# Altium schematic symbol library LOGTURTLE_APR_25_TX.SCHLIB: 138 symbols (part 1 of 2)
Pins are listed as number, name and electrical type; pins without a type are passive.

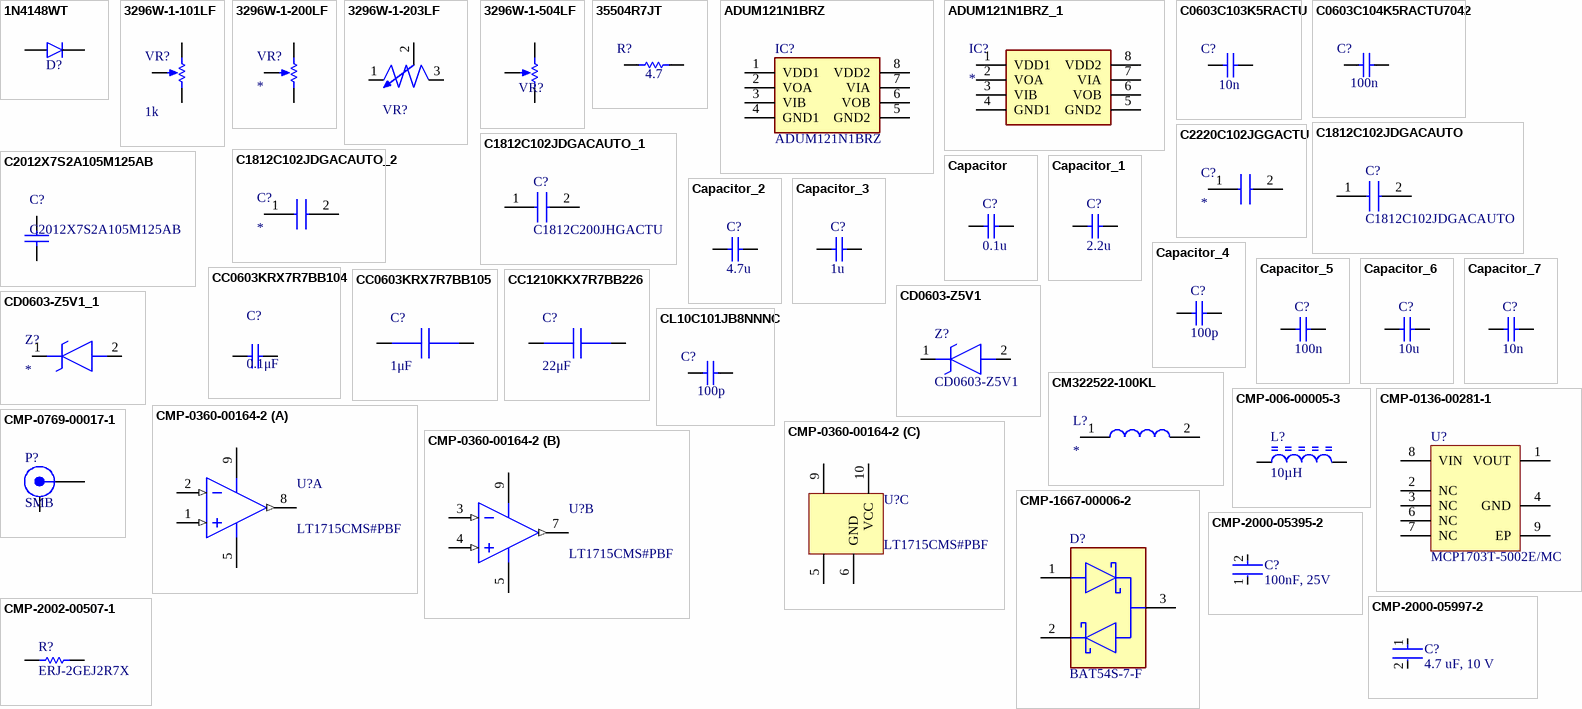
[diagram p0: symbols 1N4148WT to CMP-2002-00507-1]

## 1N4148WT
designator D?  (value not drawn)
Rectifier Diode, 1 Phase, 1 Element, 0.3A, 75V V(RRM), Silicon https://www.digikey.ie/en/products/detail/onsemi/1N4148WT/1954014; Manufacturer: ON Semiconductor / Fairchild; Supplier: Rs; Supplier Part Number: 7614283P; Manufacturer Part Number: 1N4148WT; RoHS: Yes; Category: Rectifier Diodes; Stock: 67900; Pricing: 500=0.029, 1000=0.025, 2500=0.022 (EUR); Diode Type: RECTIFIER; RoHS Compliant: Yes; ComponentLink1URL: https://datasheet.ciiva.com/16744/1n4148wt-16744972.pdf?src-supplier=Future+Electronics; ComponentLink1Description: https://datasheet.ciiva.com/16744/1n4148wt-16744972.pdf?src-supplier=Future+Electronics; ComponentLink2URL: https://datasheet.ciiva.com/30479/0900766b810e1cd4-30479226.pdf?src-supplier=Rs; ComponentLink2Description: https://datasheet.ciiva.com/30479/0900766b810e1cd4-30479226.pdf?src-supplier=Rs; ComponentLink3URL: https://datasheet.ciiva.com/15208/getdatasheetpartid-146392-15208359.pdf?src-supplier=Verical; ComponentLink3Description: https://datasheet.ciiva.com/15208/getdatasheetpartid-146392-15208359.pdf?src-supplier=Verical; ComponentLink4URL: https://datasheet.ciiva.com/916/1n914bwt-916865.pdf?src-supplier=Digikey; ComponentLink4Description: https://datasheet.ciiva.com/916/1n914bwt-916865.pdf?src-supplier=Digikey; ComponentLink5URL: https://datasheet.ciiva.com/916/1n914bwt-916866.pdf?src-supplier=Digikey; ComponentLink5Description: https://datasheet.ciiva.com/916/1n914bwt-916866.pdf?src-supplier=Digikey; ComponentLink6URL: https://datasheet.ciiva.com/916/1n914bwt-916864.pdf?src-supplier=Digikey; ComponentLink6Description: https://datasheet.ciiva.com/916/1n914bwt-916864.pdf?src-supplier=Digikey
footprint SODFL160X70-2N (SODFL, 2-Leads, Body 0.80x1.60mm, IPC Medium Density)
pins: 1 Anode, 2 Cathode

## 3296W-1-101LF
designator VR?  value 1k  (hidden comment: *)
Variable Resistor, 1 kOhms 0.5W, 1/2W PC Pins Through Hole Trimmer Potentiometer Cermet 25.0 Turn Top Adjustment; Manufacturer_Name: Bourns; Datasheet Link: https://componentsearchengine.com/Datasheets/2/3296W-1-200LF.pdf; Height: 10.28mm; Mouser Price/Stock: https://www.mouser.co.uk/ProductDetail/Bourns/3296W-1-200LF?qs=R4%2FAj8xQbdUOcUUWJIVY1Q%3D%3D; Arrow Price/Stock: https://www.arrow.com/en/products/3296w-1-200lf/bourns?utm_currency=USD&region=nac
footprint 3296W1200LF
pins: 1 TOP, 2 BOT, 3 TAP

## 3296W-1-200LF
designator VR?
Variable Resistor, 20 Ohms 0.5W, 1/2W PC Pins Through Hole Trimmer Potentiometer Cermet 25.0 Turn Top Adjustment; Manufacturer_Name: Bourns; Manufacturer_Part_Number: 3296W-1-200LF; Datasheet Link: https://componentsearchengine.com/Datasheets/2/3296W-1-200LF.pdf; Height: 10.28mm; Mouser Part Number: 652-3296W-1-200LF; Mouser Price/Stock: https://www.mouser.co.uk/ProductDetail/Bourns/3296W-1-200LF?qs=R4%2FAj8xQbdUOcUUWJIVY1Q%3D%3D; Arrow Part Number: 3296W-1-200LF; Arrow Price/Stock: https://www.arrow.com/en/products/3296w-1-200lf/bourns?utm_currency=USD&region=nac
footprint 3296W1200LF
pins: 1 TOP, 2 BOT, 3 TAP

## 3296W-1-203LF
designator VR?  (value not drawn)
Trimmer, Cermet, 0.5W, 20000ohm, 300V, 10% +/-Tol, 100ppm/Cel, 25 Turn(s) https://www.bourns.com/docs/product-datasheets/3296.pdf; Manufacturer: Bourns; Actuator Orientation: Vertical; Actuator Type: SCREW; Number of Turns: 25; Power: 500mW; Rated Temperature: 70°C; Value: 20kR; Resistance Law: Linear; Rotational Angle: 9000°; Temperature Coefficient: -100100ppm/°C; Lead Diameter: 0.51mm; Lead Length: 6.4mm; Package Height: 10.03mm; Package Length: 9.53mm; Package Width: 4.83mm; Supplier: Digikey; Supplier Part Number: 3296W-203LF-ND; Manufacturer Part Number: 3296W-1-203LF; RoHS: Yes; Category: Variable Resistors and Potentiometers; Stock: 2018; Mounting Technology: Through Hole; Pins: 3; Package Shape: Rectangular; Case/Package: 3819; Terminal Finish: Tin; Min Operating Temperature: -55°C; Max Operating Temperature: 125°C; Tolerance: 10%; JESD-609 Code: e3; Resistor Type: TRIMMER; Construction: Trimmer Pot; Package Style: PCB MountMeter; Packaging: Rail/Tube; Technology: CERMET; Termination: Wire; RoHS Compliant: Yes; Reach SVHC Compliant: No; ComponentLink1URL: https://datasheet.ciiva.com:443/pdfs/VipMasterIC/IC/BOUR/BOUR-S-A0008796795/BOUR-S-A0008796795-1.pdf?src-supplier=IHS+Markit; ComponentLink1Description: https://datasheet.ciiva.com:443/pdfs/VipMasterIC/IC/BOUR/BOUR-S-A0008796795/BOUR-S-A0008796795-1.pdf?src-supplier=IHS+Markit; ComponentLink2URL: https://datasheet.ciiva.com/14173/ew3296-dat-e-14173023.pdf?src-supplier=Distrelec; ComponentLink2Description: https://datasheet.ciiva.com/14173/ew3296-dat-e-14173023.pdf?src-supplier=Distrelec; ComponentLink3URL: https://datasheet.ciiva.com/15156/getdatasheetpartid-62506-15156343.pdf?src-supplier=Verical; ComponentLink3Description: https://datasheet.ciiva.com/15156/getdatasheetpartid-62506-15156343.pdf?src-supplier=Verical
footprint 3296W
pins: 1 CW, 2, 3 CCW

## 3296W-1-504LF
designator VR?, comment 3296W-1-203LF  (value not drawn)
Trimmer, Cermet, 0.5W, 500 kohm, 300V, 10% +/-Tol, 100ppm/Cel, 25 Turn(s) https://www.bourns.com/docs/product-datasheets/3296.pdf; Manufacturer: Bourns; Actuator Orientation: Vertical; Actuator Type: SCREW; Number of Turns: 25; Power: 500mW; Rated Temperature: 70°C; Value: 500kR; Resistance Law: Linear; Rotational Angle: 9000°; Temperature Coefficient: -100100ppm/°C; Lead Diameter: 0.51mm; Lead Length: 6.4mm; Package Height: 10.03mm; Package Length: 9.53mm; Package Width: 4.83mm; Supplier: Digikey; Supplier Part Number: 3296W-203LF-ND; Manufacturer Part Number: 3296W-1-203LF; RoHS: Yes; Category: Variable Resistors and Potentiometers; Stock: 2018; Mounting Technology: Through Hole; Pins: 3; Package Shape: Rectangular; Case/Package: 3819; Terminal Finish: Tin; Min Operating Temperature: -55°C; Max Operating Temperature: 125°C; Tolerance: 10%; JESD-609 Code: e3; Resistor Type: TRIMMER; Construction: Trimmer Pot; Package Style: PCB MountMeter; Packaging: Rail/Tube; Technology: CERMET; Termination: Wire; RoHS Compliant: Yes; Reach SVHC Compliant: No; ComponentLink1URL: https://datasheet.ciiva.com:443/pdfs/VipMasterIC/IC/BOUR/BOUR-S-A0008796795/BOUR-S-A0008796795-1.pdf?src-supplier=IHS+Markit; ComponentLink1Description: https://datasheet.ciiva.com:443/pdfs/VipMasterIC/IC/BOUR/BOUR-S-A0008796795/BOUR-S-A0008796795-1.pdf?src-supplier=IHS+Markit; ComponentLink2URL: https://datasheet.ciiva.com/14173/ew3296-dat-e-14173023.pdf?src-supplier=Distrelec; ComponentLink2Description: https://datasheet.ciiva.com/14173/ew3296-dat-e-14173023.pdf?src-supplier=Distrelec; ComponentLink3URL: https://datasheet.ciiva.com/15156/getdatasheetpartid-62506-15156343.pdf?src-supplier=Verical; ComponentLink3Description: https://datasheet.ciiva.com/15156/getdatasheetpartid-62506-15156343.pdf?src-supplier=Verical
footprint 3296W
pins: 1 TOP, 2 BOT, 3 TAP

## 35504R7JT
designator R?  value 4.7  (hidden comment: 35504R7JT)
Resistor, 4.7 Ohms ±5% 5W Chip Resistor Nonstandard Thick Film; Manufacturer_Name: TE Connectivity; Copyright: Copyright (C) 2025 Ultra Librarian. All rights reserved.; Manufacturer_Part_Number: 35504R7JT
footprint RES_3550_TEC
pins: 1, 2

## ADUM121N1BRZ
designator IC?
Integrated Circuit; Manufacturer_Name: Analog Devices; Datasheet Link: http://www.analog.com/media/en/technical-documentation/data-sheets/ADuM120N_121N.pdf; Height: 1.75mm; Manufacturer_Part_Number: ADUM121N1BRZ; Mouser Part Number: 584-ADUM121N1BRZ; Mouser Price/Stock: https://www.mouser.co.uk/ProductDetail/Analog-Devices/ADUM121N1BRZ?qs=lrf6x%2Foh5fBVNc%2Fo3CLfcQ%3D%3D; Arrow Part Number: ADUM121N1BRZ; Arrow Price/Stock: https://www.arrow.com/en/products/adum121n1brz/analog-devices?utm_currency=USD&region=nac
footprint SOIC127P600X175-8N
pins: 1 VDD1, 2 VOA, 3 VIB, 4 GND1, 5 GND2, 6 VOB, 7 VIA, 8 VDD2

## ADUM121N1BRZ_1
designator IC?
Integrated Circuit; Manufacturer_Name: Analog Devices; Manufacturer_Part_Number: ADUM121N1BRZ; Datasheet Link: http://www.analog.com/media/en/technical-documentation/data-sheets/ADuM120N_121N.pdf; Height: 1.75mm; Mouser Part Number: 584-ADUM121N1BRZ; Mouser Price/Stock: https://www.mouser.co.uk/ProductDetail/Analog-Devices/ADUM121N1BRZ?qs=lrf6x%2Foh5fBVNc%2Fo3CLfcQ%3D%3D; Arrow Part Number: ADUM121N1BRZ; Arrow Price/Stock: https://www.arrow.com/en/products/adum121n1brz/analog-devices?utm_currency=USD&region=nac
footprint SOIC127P600X175-8N
pins: 1 VDD1, 2 VOA, 3 VIB, 4 GND1, 5 GND2, 6 VOB, 7 VIA, 8 VDD2

## C0603C103K5RACTU
designator C?  value 10n  (hidden comment: *)
Capacitor, 10000 pF ±10% 50V Ceramic Capacitor X7R 0603 (1608 Metric); Manufacturer_Name: YAGEO; Manufacturer_Part_Number: C0603C103K5RACTU; Datasheet Link: https://content.kemet.com/datasheets/KEM_C1002_X7R_SMD.pdf; Height: 0.87mm; Mouser Part Number: 80-C0603C103K5R; Mouser Price/Stock: https://www.mouser.co.uk/ProductDetail/KEMET/C0603C103K5RACTU?qs=aZBT8IJKz4hu1X55tMAU6Q%3D%3D; Arrow Part Number: C0603C103K5RACTU; Arrow Price/Stock: https://www.arrow.com/en/products/c0603c103k5ractu/kemet-corporation?utm_currency=USD&region=nac
footprint C0603
pins: 1, 2

## C0603C104K5RACTU7042
designator C?  value 100n  (hidden comment: *)
Capacitor, 0.1 µF ±10% 50V Ceramic Capacitor X7R 0603 (1608 Metric); Manufacturer_Name: YAGEO; Manufacturer_Part_Number: C0603C104K5RACTU7042; Datasheet Link: https://www.arrow.com/en/products/c0603c104k5ractu7042/kemet-corporation; Height: 0.95mm; Arrow Part Number: C0603C104K5RACTU7042; Arrow Price/Stock: https://www.arrow.com/en/products/c0603c104k5ractu7042/kemet-corporation
footprint CAPC1608X95N
pins: 1, 2

## C1812C102JDGACAUTO
designator C?
Capacitor; Manufacturer_Name: YAGEO; Datasheet Link: https://content.kemet.com/datasheets/KEM_C1080_C0G_HV_AUTO_SMD.pdf; Height: 1.55mm; Manufacturer_Part_Number: C1812C102JDGACAUTO
footprint C1812
pins: 1, 2

## C1812C102JDGACAUTO_1
designator C?, comment C1812C200JHGACTU
Capacitor; Manufacturer_Name: YAGEO; Manufacturer_Part_Number: C1812C102JDGACAUTO; Datasheet Link: https://content.kemet.com/datasheets/KEM_C1080_C0G_HV_AUTO_SMD.pdf; Height: 1.55mm
footprint C1812
pins: 1, 2

## C1812C102JDGACAUTO_2
designator C?
Capacitor; Manufacturer_Name: YAGEO; Manufacturer_Part_Number: C1812C102JDGACAUTO; Datasheet Link: https://content.kemet.com/datasheets/KEM_C1080_C0G_HV_AUTO_SMD.pdf; Height: 1.55mm
footprint C1812
pins: 1, 2

## C2012X7S2A105M125AB
designator C?
Multilayer Ceramic Capacitors 1μF ±20% 100V X7S SMD 0805; Manufacturer_Name: TDK; Capacitance: 1uF; Datasheet Link: https://product.tdk.com/info/en/catalog/datasheets/mlcc_commercial_midvoltage_en.pdf; Height: 1.45mm; Manufacturer_Part_Number: C2012X7S2A105M125AB; Mouser Part Number: 810-C2012X7S2A105M; Mouser Price/Stock: https://www.mouser.co.uk/ProductDetail/TDK/C2012X7S2A105M125AB/?qs=NRhsANhppD%252BVdUt3hZqBMQ%3D%3D
footprint CAPC2012X145N
pins: 1, 2

## C2220C102JGGACTU
designator C?
Capacitor; Manufacturer_Name: KEMET; Manufacturer_Part_Number: C2220C102JGGACTU; Datasheet Link: https://content.kemet.com/datasheets/KEM_C1009_C0G_HV_SMD.pdf; Height: 2.2mm; Mouser Part Number: 80-C2220C102JGG; Mouser Price/Stock: https://www.mouser.co.uk/ProductDetail/KEMET/C2220C102JGGACTU?qs=w3%252Bcv6Flocq2o2tO%2FfUhTA%3D%3D; Arrow Part Number: C2220C102JGGACTU; Arrow Price/Stock: https://www.arrow.com/en/products/c2220c102jggactu/kemet-corporation?region=nac
footprint C2220
pins: 1, 2

## Capacitor
designator C?  value 0.1u  (hidden comment: Capacitor)
SimulationGenericComponent: True
simulation model C_Capacitor_Default (CAP)
footprint CAPC1608X09N (Chip Capacitor, 2-Leads, Body 1.60x0.80mm, IPC Medium Density)
pins: 1, 2

## Capacitor_1
designator C?, comment value 2.2u  (hidden comment: Capacitor)
SimulationGenericComponent: True
simulation model C_Capacitor_Default (CAP)
footprint CAPC1608X09N (Chip Capacitor, 2-Leads, Body 1.60x0.80mm, IPC Medium Density)
pins: 1, 2

## Capacitor_2
designator C?, comment value 4.7u  (hidden comment: Capacitor)
SimulationGenericComponent: True
simulation model C_Capacitor_Default (CAP)
pins: 1, 2

## Capacitor_3
designator C?, comment value 1u  (hidden comment: Capacitor)
SimulationGenericComponent: True
simulation model C_Capacitor_Default (CAP)
footprint CAPC1608X09N (Chip Capacitor, 2-Leads, Body 1.60x0.80mm, IPC Medium Density)
pins: 1, 2

## Capacitor_4
designator C?, comment value 100p  (hidden comment: Capacitor)
SimulationGenericComponent: True
simulation model C_Capacitor_Default (CAP)
pins: 1, 2

## Capacitor_5
designator C?, comment value 100n  (hidden comment: Capacitor)
SimulationGenericComponent: True
simulation model C_Capacitor_Default (CAP)
pins: 1, 2

## Capacitor_6
designator C?, comment value 10u  (hidden comment: Capacitor)
SimulationGenericComponent: True
simulation model C_Capacitor_Default (CAP)
pins: 1, 2

## Capacitor_7
designator C?, comment value 10n  (hidden comment: Capacitor)
SimulationGenericComponent: True
simulation model C_Capacitor_Default (CAP)
footprint CAPC1608X09N (Chip Capacitor, 2-Leads, Body 1.60x0.80mm, IPC Medium Density)
pins: 1, 2

## CC0603KRX7R7BB104
designator C?, comment 0.1μF
Ceramic Capacitor, Multilayer, Ceramic, 16V, 10% +Tol, 10% -Tol, X7R, 15% TC, 0.1uF, Surface Mount, 0603 https://www.digikey.ie/en/products/detail/yageo/CC0603KRX7R7BB104/302822; Manufacturer: Yageo; Value: 100nF; Multilayer: Yes; Supplier: Digikey; Supplier Part Number: 311-1088-1-ND; Manufacturer Part Number: CC0603KRX7R7BB104; RoHS: Yes; Category: Ceramic Capacitors; Stock: 8597331; Mounting Technology: Surface Mount; Pins: 2; Dielectric Material: Ceramic; Package Shape: Rectangular; Case/Package: 0603; Terminal Finish: Nickel; Min Operating Temperature: -55°C; Max Operating Temperature: 125°C; JESD-609 Code: e3; Capacitor Type: Ceramic; Tolerance  (fill in as +-): 10%; Package Style: SMTMeter; Packaging: Tape and Reel; Tolerance (fill in as +-): 10%; Rated DC Voltage (URdc): 16V; Temperature Characteristics Code: X7R; Termination: Wraparound; Length: 1.6mm; Width: 0.8mm; Height: 0.8mm; Reach SVHC Compliant: Yes; RoHS Compliant: Yes; ComponentLink1URL: https://datasheet.ciiva.com:443/pdfs/VipMasterIC/IC/YAGO/YAGO-S-A0003557223/YAGO-S-A0003557223-1.pdf?src-supplier=IHS+Markit; ComponentLink1Description: https://datasheet.ciiva.com:443/pdfs/VipMasterIC/IC/YAGO/YAGO-S-A0003557223/YAGO-S-A0003557223-1.pdf?src-supplier=IHS+Markit; ComponentLink2URL: https://datasheet.ciiva.com/11786/0900766b80d84f1d-11786077.pdf?src-supplier=Rs; ComponentLink2Description: https://datasheet.ciiva.com/11786/0900766b80d84f1d-11786077.pdf?src-supplier=Rs; ComponentLink3URL: https://datasheet.ciiva.com/8033/70765-8033799.pdf?src-supplier=Element14; ComponentLink3Description: https://datasheet.ciiva.com/8033/70765-8033799.pdf?src-supplier=Element14; ComponentLink4URL: https://datasheet.ciiva.com/7978/1489800-7978141.pdf?src-supplier=Element14; ComponentLink4Description: https://datasheet.ciiva.com/7978/1489800-7978141.pdf?src-supplier=Element14; ComponentLink5URL: https://datasheet.ciiva.com/28450/1489800-28450552.pdf?src-supplier=Element14; ComponentLink5Description: https://datasheet.ciiva.com/28450/1489800-28450552.pdf?src-supplier=Element14; ComponentLink6URL: https://datasheet.ciiva.com/46430/1734573-46430156.pdf?src-supplier=Element14; ComponentLink6Description: https://datasheet.ciiva.com/46430/1734573-46430156.pdf?src-supplier=Element14; ComponentLink7URL: https://datasheet.ciiva.com/144/mlccorderingcode-144183.pdf?src-supplier=Digikey; ComponentLink7Description: https://datasheet.ciiva.com/144/mlccorderingcode-144183.pdf?src-supplier=Digikey; ComponentLink8URL: https://datasheet.ciiva.com/144/mlccorderingcode-144182.pdf?src-supplier=Digikey; ComponentLink8Description: https://datasheet.ciiva.com/144/mlccorderingcode-144182.pdf?src-supplier=Digikey; ComponentLink9URL: https://datasheet.ciiva.com/144/mlccorderingcode-144184.pdf?src-supplier=Digikey; ComponentLink9Description: https://datasheet.ciiva.com/144/mlccorderingcode-144184.pdf?src-supplier=Digikey; ComponentLink10URL: https://datasheet.ciiva.com/8033/1734573-8033797.pdf?src-supplier=Element14; ComponentLink10Description: https://datasheet.ciiva.com/8033/1734573-8033797.pdf?src-supplier=Element14; ComponentLink11URL: https://datasheet.ciiva.com/13395/upy-gphc-x7r-6-3v-to-50v-8-13395674.pdf?src-supplier=Mouser; ComponentLink11Description: https://datasheet.ciiva.com/13395/upy-gphc-x7r-6-3v-to-50v-8-13395674.pdf?src-supplier=Mouser
footprint CAPC1608X90N
pins: 1, 2

## CC0603KRX7R7BB105
designator C?, comment 1μF
Ceramic Capacitor, Multilayer, Ceramic, 16V, 10% +Tol, 10% -Tol, X7R, 15% TC, 1uF, Surface Mount, 0603 https://www.digikey.ie/en/products/detail/yageo/CC0603KRX7R7BB105/2833611; Manufacturer: Yageo; Multilayer: Yes; Supplier: Digikey; Supplier Part Number: 311-1446-6-ND; Manufacturer Part Number: CC0603KRX7R7BB105; RoHS: Yes; Category: Ceramic Capacitors; Stock: 9128438; Mounting Technology: Surface Mount; Pins: 2; Dielectric Material: Ceramic; Package Shape: Rectangular; Case/Package: 0603; Terminal Finish: Nickel; Min Operating Temperature: -55°C; Max Operating Temperature: 125°C; JESD-609 Code: e3; Value: 1uF; Capacitor Type: Ceramic; Tolerance  (fill in as +-): 10%; Package Style: SMTMeter; Packaging: Tape and Reel; Tolerance (fill in as +-): 10%; Rated DC Voltage (URdc): 16V; Temperature Characteristics Code: X7R; Termination: Wraparound; Length: 1.6mm; Width: 0.8mm; Height: 0.8mm; Reach SVHC Compliant: Yes; RoHS Compliant: Yes; ComponentLink1URL: https://datasheet.ciiva.com:443/pdfs/VipMasterIC/IC/YAGO/YAGO-S-A0003557223/YAGO-S-A0003557223-1.pdf?src-supplier=IHS+Markit; ComponentLink1Description: https://datasheet.ciiva.com:443/pdfs/VipMasterIC/IC/YAGO/YAGO-S-A0003557223/YAGO-S-A0003557223-1.pdf?src-supplier=IHS+Markit; ComponentLink2URL: https://datasheet.ciiva.com/8033/1734573-8033801.pdf?src-supplier=Element14; ComponentLink2Description: https://datasheet.ciiva.com/8033/1734573-8033801.pdf?src-supplier=Element14; ComponentLink3URL: https://datasheet.ciiva.com/8033/1734573-8033800.pdf?src-supplier=Element14; ComponentLink3Description: https://datasheet.ciiva.com/8033/1734573-8033800.pdf?src-supplier=Element14; ComponentLink4URL: https://datasheet.ciiva.com/7978/1489800-7978143.pdf?src-supplier=Element14; ComponentLink4Description: https://datasheet.ciiva.com/7978/1489800-7978143.pdf?src-supplier=Element14; ComponentLink5URL: https://datasheet.ciiva.com/28450/1489800-28450557.pdf?src-supplier=Element14; ComponentLink5Description: https://datasheet.ciiva.com/28450/1489800-28450557.pdf?src-supplier=Element14; ComponentLink6URL: https://datasheet.ciiva.com/176/mlccorderingcode-176789.pdf?src-supplier=Digikey; ComponentLink6Description: https://datasheet.ciiva.com/176/mlccorderingcode-176789.pdf?src-supplier=Digikey; ComponentLink7URL: https://datasheet.ciiva.com/176/mlccorderingcode-176788.pdf?src-supplier=Digikey; ComponentLink7Description: https://datasheet.ciiva.com/176/mlccorderingcode-176788.pdf?src-supplier=Digikey; ComponentLink8URL: https://datasheet.ciiva.com/176/mlccorderingcode-176790.pdf?src-supplier=Digikey; ComponentLink8Description: https://datasheet.ciiva.com/176/mlccorderingcode-176790.pdf?src-supplier=Digikey; ComponentLink9URL: https://datasheet.ciiva.com/5425/upy-gphc-x7r-6-3v-to-50v-8-12304-5425495.pdf?src-supplier=Mouser; ComponentLink9Description: https://datasheet.ciiva.com/5425/upy-gphc-x7r-6-3v-to-50v-8-12304-5425495.pdf?src-supplier=Mouser
footprint CAPC1608X09N (Chip Capacitor, 2-Leads, Body 1.60x0.80mm, IPC Medium Density)
pins: 1, 2

## CC1210KKX7R7BB226
designator C?, comment 22μF
Ceramic Capacitor, Multilayer, Ceramic, 16V, 10% +Tol, 10% -Tol, X7R, 15% TC, 22uF, Surface Mount, 1210 https://www.digikey.ie/en/products/detail/yageo/CC1210KKX7R7BB226/5195434; Manufacturer: Yageo; Multilayer: Yes; Supplier: Rs; Supplier Part Number: 1992345; Manufacturer Part Number: CC1210KKX7R7BB226; RoHS: Yes; Category: Ceramic Capacitors; Stock: 1770; Pricing: 10=0.332, 100=0.248, 500=0.216, 1000=0.198 (EUR); Mounting Technology: Surface Mount; Pins: 2; Dielectric Material: Ceramic; Package Shape: Rectangular; Case/Package: 1210; Terminal Finish: Nickel; Min Operating Temperature: -55°C; Max Operating Temperature: 125°C; JESD-609 Code: e3; Value: 22uF; Capacitor Type: Ceramic; Tolerance  (fill in as +-): 10%; Package Style: SMTMeter; Packaging: Tape and Reel; Tolerance (fill in as +-): 10%; Rated DC Voltage (URdc): 16V; Temperature Characteristics Code: X7R; Termination: Wraparound; Length: 3.2mm; Width: 2.5mm; Height: 2.5mm; Reach SVHC Compliant: Yes; RoHS Compliant: Yes; ComponentLink1URL: https://datasheet.ciiva.com:443/pdfs/VipMasterIC/IC/YAGO/YAGO-S-A0003557223/YAGO-S-A0003557223-1.pdf?src-supplier=IHS+Markit; ComponentLink1Description: https://datasheet.ciiva.com:443/pdfs/VipMasterIC/IC/YAGO/YAGO-S-A0003557223/YAGO-S-A0003557223-1.pdf?src-supplier=IHS+Markit; ComponentLink2URL: https://datasheet.ciiva.com/11465/upy-gphc-x7r-6-3v-to-50v-8-11465512.pdf?src-supplier=Avnet; ComponentLink2Description: https://datasheet.ciiva.com/11465/upy-gphc-x7r-6-3v-to-50v-8-11465512.pdf?src-supplier=Avnet
footprint CAPC3225X27N (Chip Capacitor, 2-Leads, Body 3.20x2.50mm, IPC Medium Density)
pins: 1, 2

## CD0603-Z5V1
designator Z?
Zener Diode; Manufacturer_Name: Bourns; Datasheet Link: https://media.digikey.com/pdf/Data%20Sheets/Bourns%20PDFs/D0603_1005-Z.pdf; Height: 0.85mm; Manufacturer_Part_Number: CD0603-Z5V1; Mouser Part Number: 652-CD0603-Z5V1; Mouser Price/Stock: https://www.mouser.com/Search/Refine.aspx?Keyword=652-CD0603-Z5V1
footprint DIOC1709X85N
pins: 1 K, 2 A

## CD0603-Z5V1_1
designator Z?
Zener Diode; Manufacturer_Name: Bourns; Manufacturer_Part_Number: CD0603-Z5V1; Datasheet Link: https://media.digikey.com/pdf/Data%20Sheets/Bourns%20PDFs/D0603_1005-Z.pdf; Height: 0.85mm; Mouser Part Number: 652-CD0603-Z5V1; Mouser Price/Stock: https://www.mouser.com/Search/Refine.aspx?Keyword=652-CD0603-Z5V1
footprint DIOC1709X85N
pins: 1 K, 2 A

## CL10C101JB8NNNC
designator C?  value 100p  (hidden comment: *)
Capacitor, 100 pF ±5% 50V Ceramic Capacitor C0G, NP0 0603 (1608 Metric); Manufacturer_Name: SAMSUNG; Manufacturer_Part_Number: CL10C101JB8NNNC; Datasheet Link: https://lcsc.componentsearchengine.com/Datasheets/2/CL10C101JB8NNNC.pdf; Height: 0.9mm; Mouser Part Number: 187-CL10C101JB8NNNC; Mouser Price/Stock: https://www.mouser.co.uk/ProductDetail/Samsung-Electro-Mechanics/CL10C101JB8NNNC?qs=349EhDEZ59pXXooLigsK%2FQ%3D%3D; Arrow Part Number: CL10C101JB8NNNC; Arrow Price/Stock: https://www.arrow.com/en/products/cl10c101jb8nnnc/samsung-electro-mechanics?region=europe
footprint CAPC1608X90N
pins: 1, 2

## CM322522-100KL
designator L?
Inductor; Manufacturer_Name: Bourns; Manufacturer_Part_Number: CM322522-100KL; Datasheet Link: https://www.bourns.com/pdfs/cm322522.pdf; Height: 2.4mm; Mouser Part Number: 652-CM322522-100KL; Mouser Price/Stock: https://www.mouser.co.uk/ProductDetail/Bourns/CM322522-100KL?qs=jraqILX6wiS%2FPuyhRhNrKA%3D%3D; Arrow Part Number: CM322522-100KL; Arrow Price/Stock: https://www.arrow.com/en/products/cm322522-100kl/bourns?region=nac
footprint INDM3225X240N
pins: 1, 2

## CMP-006-00005-3
designator L?, comment Inductance: 10µH  (hidden comment: CM322522-100KL)
Chip Inductor, 10 uH, +/- 10%, -40 to 125 degC, 1210 (3225 Metric), RoHS, Tape and Reel; Manufacturer: Bourns; Current Rating: 140mA; Q Factor: 30; Self Resonant Frequency: 30MHz; Core Material: Ferrite; Shielding: Unshielded; Resistance: 2.1Ohm; Mounting Technology: SM; Min Operating Temperature: -20°C; Datasheet URL: http://www.murata.com/~/media/webrenewal/support/library/catalog/products/emc/emifil/c30e.ashx?la=en-gb; Case/Package: 1210; Pins: 2; Package Description: 2-Pin Surface Mount Device, Body 3.2 x 2.5 mm; RoHS Compliant: True; Max Operating Temperature: 100°C; Inductance Tolerance: 10%; Package Reference: 1210; Packaging: TapeandReel; Package Quantity: 1; Datasheet Version: Aug-14; Tolerance: 10%
footprint INDM3225X240N
pins: 1, 2

## CMP-0136-00281-1
designator U?, comment MCP1703T-5002E/MC
250 mA, 16V, Low Quiescent Current LDO Regulator, 8-Pin DFN, Extended Temperature, Tape and Reel; PackageDescription: 8-Lead Plastic Dual Flat, No Lead Package (MC) - 2x3x0.9mm Body [DFN]; PackageReference: DFN-MC8; PackageVersion: revBB, Aug-2009; DatasheetVersion: revD, Sep-2009
footprint DFN-MC8 (SON, 8-Leads, Body 2x3mm, Pitch 0.5mm, Microchip Recommended)
pins: 1 VOUT (power), 2 NC, 3 NC, 4 GND (power), 6 NC, 7 NC, 8 VIN (power), 9 EP (power)

## CMP-0360-00164-2
designator U?, comment LT1715CMS#PBF
4 ns, 150 MHz Comparator with Independent Input / Output Supplies, 2 Channels, 2.7 to 12 V, 0 to +70 degC, 10-pin MSOP (MS10); Generic Part Number: LT1715; Manufacturer: Linear Technology; Prop Delay (us): 0.004; Vos (mV) Typical: 0.4; Channels (#): 2; Vs Min (V): 2.7; Supply Current (uA) Typical: 7500; Vos (mV) Guaranteed: 2.5; Vs Max (V): 12; Supply Voltage Range: 2.7 to 12 V; ComponentLink1Description: Manufacturer URL; ComponentLink1URL: http://www.linear.com/; RoHS: Y; ComponentLink2URL: http://cds.linear.com/docs/en/datasheet/1715fa.pdf; Features: Comparator, Separate In/Out Power Supply; Mounting Technology: Surface Mount; ComponentLink3URL: http://cds.linear.com/docs/en/packaging/MSOP_10_05-08-1661.pdf; ComponentLink3Description: Package Specification; PartNumber: LT1715CMS#PBF; PackageReference: MS10; ComponentLink2Description: Datasheet; PackageDescription: 10-Pin MSOP, Body 3 x 3 mm, Pitch 0.5 mm; DatasheetVersion: Rev A
footprint LT-MS10_N (SOP, 10-Leads, Body 3x3mm, Pitch 0.5mm, IPC Medium Density)
footprint LT-MS10_M (SOP, 10-Leads, Body 3x3mm, Pitch 0.5mm, IPC Low Density)
footprint LT-MS10_L (SOP, 10-Leads, Body 3x3mm, Pitch 0.5mm, IPC High Density)
pins on every part: 5 VEE (power) "Negative Supply Voltage for Input Stage and Substrate.", 9 +VS (power) "Positive Supply Voltage for Output Stage."
part A pins: 1 +IN A (in) "Noninverting Input of Comparator A.", 2 -IN A (in) "Inverting Input of Comparator A.", 8 OUT A (out) "Output of Comparator A."
part B pins: 3 -IN B (in) "Inverting Input of Comparator B.", 4 +IN B (in) "Noninverting Input of Comparator B.", 7 OUT B (out) "Output of Comparator B."
part C pins: 6 GND (power) "Ground for Output Stage.", 10 VCC (power) "Positive Supply Voltage for Input Stage."

## CMP-0769-00017-1
designator P?, comment SMB
SMB Right Angle Plug, Up to 4 GHz, -55 to 155 degC; PartNumber: 59S225-400L5; Manufacturer: Rosenberger; Design Note: Footprint in library is a generic example - only application specific footprint delivers High Performance; ComponentLink1Description: Manufacturer URL; PackageDescription: SMB Right Angle Plug, 14.5 x 6 x 8.3 mm; DatasheetVersion: a00; PackageVersion: a00; ComponentLink3URL: http://rosenberger.de/ok/images/documents/db/59S225-400L5.pdf; ComponentLink4Description: Series Overview / Design Note; ComponentLink1URL: http://www.rosenberger.de; ComponentLink2URL: http://rosenberger.de/ok/images/documents/db/59S225-400L5.pdf; ComponentLink2Description: Datasheet; ComponentLink5URL: http://www.rosenberger.com/en/contact/sales/; ComponentLink3Description: Package Specification; ComponentLink5Description: Webshop / RFQ; PackageReference: 59S225-400L5; ComponentLink4URL: http://rosenberger.de/ok/images/documents/spez/59FaKrA.pd; Mounting Technology: Through Hole
footprint ROS-59S225-400L5_V (SMB Right Angle Plug, 14.5x6x8.3mm, Rosenberger Recommended)
pins: 1, MH

## CMP-1667-00006-2
designator D?, comment BAT54S-7-F
DIODE ARRAY SCHOTTKY 30V SOT23-3; Forward Voltage: 800mV; Reverse Recovery Time: 5ns; Peak Non-Repetitive Surge Current: 600mA; Power Rating: 200mW; Current Rating: 200mA; Peak Reverse Current: 2uA; Capacitance: 10pF; Width: 1.3mm; Mount: Surface Mount; Height: 1mm; Number of Pins: 3; Weight: 0.000282oz; Max Reverse Voltage (DC): 30V; Max Power Dissipation: 200mW; Lead Free: Lead Free; Max Operating Temperature: 150°C; Min Operating Temperature: -65°C; Package Quantity: 3000; REACH SVHC: No SVHC; Termination: SMD/SMT; Max Forward Surge Current (Ifsm): 600mA; Radiation Hardening: No; Voltage Rating (DC): 30V; Average Rectified Current: 200mA; Max Repetitive Reverse Voltage (Vrrm): 30V; Contact Plating: Tin; Case/Package: SOT-23; Forward Current: 200mA; Power Dissipation: 200mW; Length: 2.9mm; Packaging: Tape and Reel
footprint FP-SOT23-MFG
footprint FP-SOT23-IPC_B
footprint FP-SOT23-IPC_A
footprint FP-SOT23-IPC_C
pins: 1, 2, 3

## CMP-2000-05395-2
designator C?, comment 100nF, 25V
Multilayer Ceramic Capacitors 100nF ±10% 25V X7R SMD 0603; Lead Free: Lead Free; REACH SVHC: No SVHC; Tolerance: 10%; Case Code (Metric): 1608; Packaging: Tape and Reel; Radiation Hardening: No; Dielectric: X7R; Height: 0.8mm; Width: 0.031inch; Voltage Rating (DC): 25V; Case Code (Imperial): 0603; Mount: Surface Mount; RoHS Compliant: Yes; Depth: 0.8mm; Min Operating Temperature: -55°C; Capacitance: 100nF; Number of Pins: 2; Weight: 7.1E-05oz; Max Operating Temperature: 125°C; Dielectric Material: Ceramic; Resistor Type: Ceramic; Construction: Flat; Thickness: 0.037inch; Package Quantity: 1; Voltage Rating: 25V; Series: C; Voltage: 25V; Case/Package: 0603; Termination: SMD/SMT; Length: 1.6mm
footprint FP-C1608-080-0_1-IPC_B
footprint FP-C1608-080-0_1-IPC_A
footprint FP-C1608-080-0_1-MFG
footprint FP-C1608-080-0_1-IPC_C
pins: 1, 2

## CMP-2000-05997-2
designator C?, comment 4.7 uF, 10 V
CAP CER 4.7UF 10V X5R 0402; Dielectric Material: Ceramic; Tolerance: 10%; Series: C; Package Quantity: 10000; Max Operating Temperature: 85°C; Case Code (Imperial): 0402; Lead Free: Lead Free; Voltage Rating (DC): 10V; Packaging: Cut Tape; Voltage Rating: 10V; Min Operating Temperature: -55°C; Dielectric: X5R; Thickness: 0.022inch; Width: 0.02inch; Case/Package: 0402; Case Code (Metric): 1005; Capacitance: 4.7uF; Length: 0.039inch; RoHS Compliant: Yes; REACH SVHC: No SVHC; Mount: Surface Mount
footprint FP-C1005-050-0_15-MFG
footprint FP-C1005-050-0_15-IPC_B
footprint FP-C1005-050-0_15-IPC_A
footprint FP-C1005-050-0_15-IPC_C
pins: 1, 2

## CMP-2002-00507-1
designator R?, comment ERJ-2GEJ2R7X
Manufacturer: Panasonic; Part Number: ERJ-2GEJ2R7X
footprint RESC1005X40X25ML05T05 (Chip Resistor, 2-Leads, Body 1.00x0.50mm, IPC Low Density)
footprint RESC1005X40X25NL05T05 (Chip Resistor, 2-Leads, Body 1.00x0.50mm, IPC Medium Density)
footprint RESC1005X40X25LL05T05 (Chip Resistor, 2-Leads, Body 1.00x0.50mm, IPC High Density)
pins: 1, 2
1 alternate drawing of the same symbol

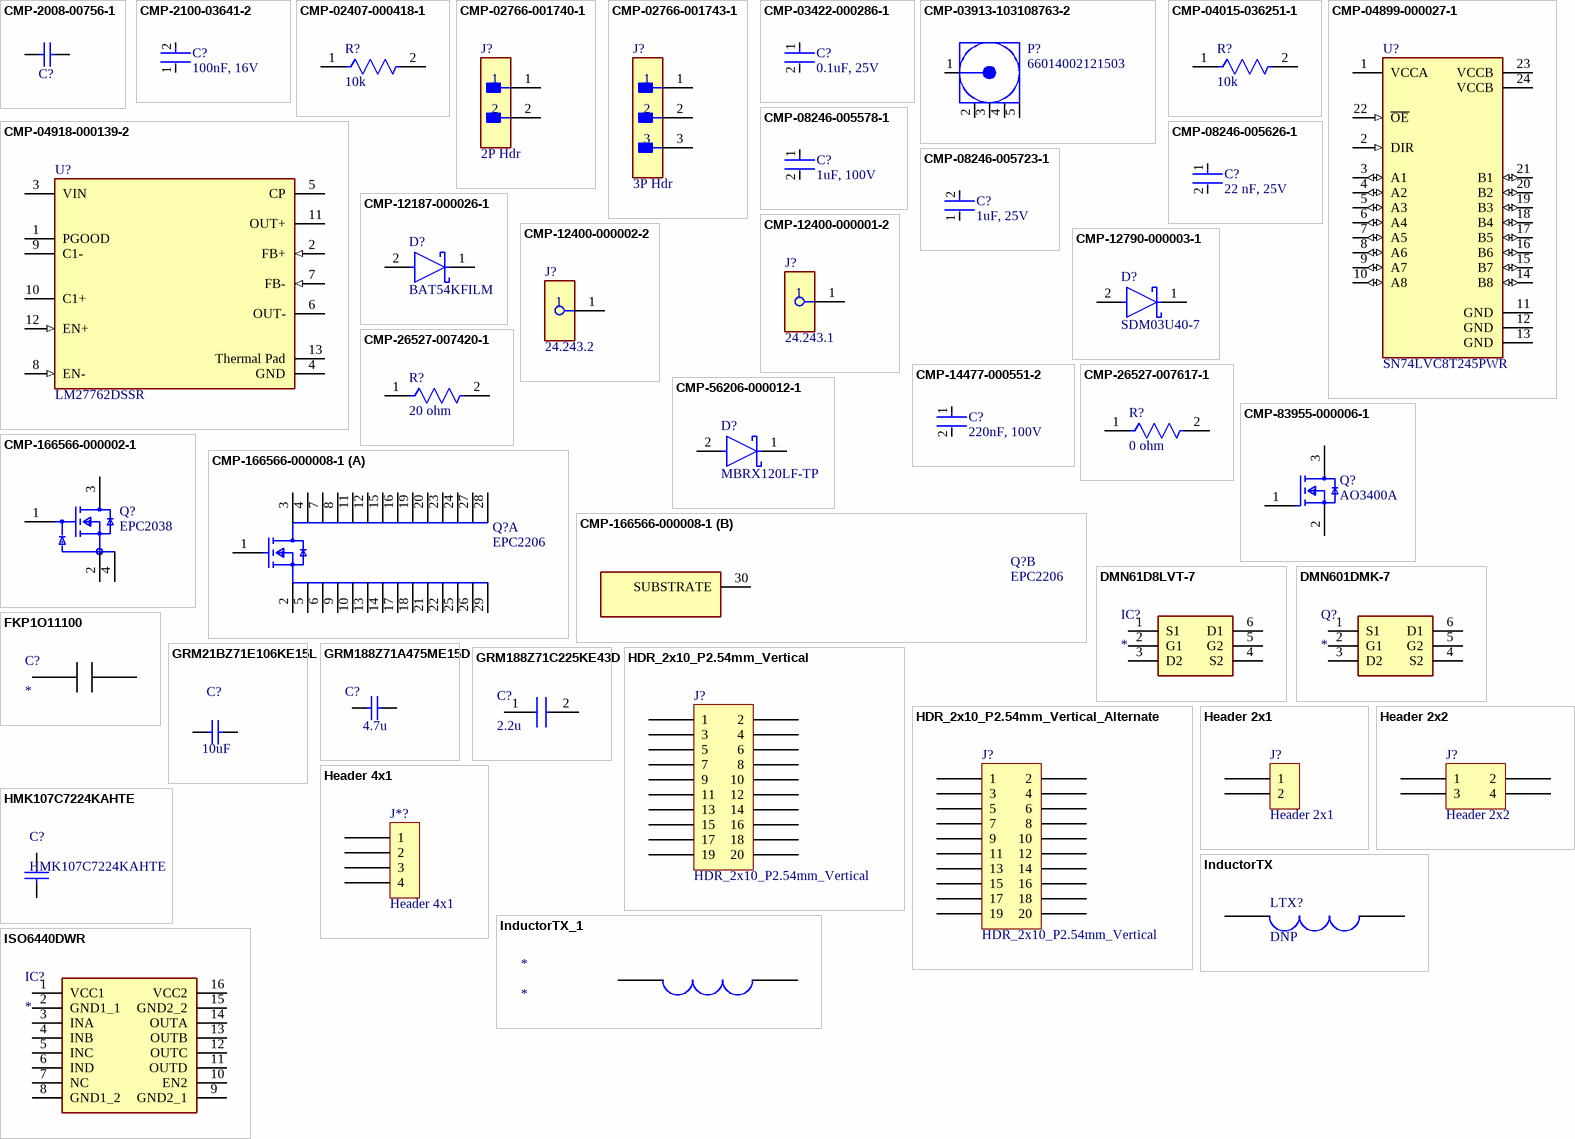
[diagram p1: symbols CMP-2008-00756-1 to ISO6440DWR]

## CMP-2008-00756-1
designator C?, comment VJ0402A101KXAMC  (value not drawn)
100pF, 50V; Manufacturer: Vishay; Part Number: VJ0402A101KXAMC
footprint CAPC1005X60X26NL10T16 (Chip Capacitor, 2-Leads, Body 1.00x0.50mm, IPC Medium Density)
footprint CAPC1005X60X26LL10T16 (Chip Capacitor, 2-Leads, Body 1.00x0.50mm, IPC High Density)
footprint CAPC1005X60X26ML10T16 (Chip Capacitor, 2-Leads, Body 1.00x0.50mm, IPC Low Density)
pins: 1, 2
1 alternate drawing of the same symbol

## CMP-2100-03641-2
designator C?, comment 100nF, 16V
CAP CER 0.1UF 16V X7R 0402; Manufacturer Part Number: GRM155R71C104KA88D; Manufacturer: Murata; Standoff Height: 0mm; Tolerance: 10%; Voltage Rating: 16Vdc; Material: Ceramic; Capacitance: 0.10μF; Value: 0.10μF; RoHS: TRUE; Temperature Characteristic: X7R; Octopart: https://octopart.com/grm155r71c104ka88d-murata-196880; Digikey Description: CAP CER 0.1UF 16V X7R 0402; Device Class L3: Ceramic Capacitors; Height: 0.55mm; ComponentLink2Description: Datasheet; Temperature Range Low: -55°C; Ipc Land Pattern Name: CAPC10050X219; ComponentLink2URL: https://search.murata.co.jp/Ceramy/image/img/A01X/G101/ENG/GRM155R71H471KA01-01A.pdf; Device Class L1: Passive Components; Lead Free: yes; Category: Cap; Package: GRM15; Temperature: -55°C to +125°C; Device Class L2: Capacitors; Temperature Range High: +125°C; Mouser Description: 0402 0.1 uF 16V ±10 % Tolerance X7R SMT Multilayer Ceramic Capacitor
footprint FP-GRM15-MFG
footprint FP-GRM15-IPC_C
footprint FP-GRM15-IPC_B
footprint FP-GRM15-IPC_A
pins: 1, 2

## CMP-02407-000418-1
designator R?, comment 10k
RES SMD 100 OHM 1% 1/8W 0603; Voltage Rating: 75V; Power Rating: 100mW; Temperature Coefficient: 50ppm/°C; Max Power Dissipation: 125mW; Resistance: 10kR; Case/Package: 0603; Military Standard: Not; Min Operating Temperature: -55°C; Width: 0.8mm; Package Quantity: 1; Max Operating Temperature: 125°C; Tolerance: 1%; Depth: 0.85mm; Radiation Hardening: No; Mount: Surface Mount; Composition: Thin Film; Contact Plating: Tin; Lead Free: Lead Free; Case Code (Imperial): 0603; Number of Terminations: 2; Voltage Rating (DC): 75V; Length: 1.55mm; Packaging: Tape and Reel; Height: 0.022inch; Case Code (Metric): 1608
footprint FP-MCT0603-IPC_C
footprint FP-MCT0603-IPC_A
footprint FP-MCT0603-IPC_B
footprint FP-MCT0603-MFG
pins: 1, 2

## CMP-02766-001740-1
designator J?, comment 2P Hdr
CONN HEADER VERT 2POS 2.54MM; Number of Positions: 2; Max Current Rating: 7.6A; Gender: Male; Max Voltage Rating (AC): 550V; Contact Mating Length: 0.32inch; REACH SVHC: No SVHC; Width: 2.54mm; Insulation Material: PBT; Contact Shape: Square; Contact Plating: Gold; Min Operating Temperature: -55°C; Contact Material: Bronze; Color: Black; Number of Contacts: 2; Housing Material: Polyester; Orientation: Straight; Flammability Rating: UL94 V-0; Max Operating Temperature: 125°C; Contact Type: Male Pin; Radiation Hardening: No; Termination: Solder; RoHS Compliant: Yes; Lead Free: Lead Free; Fastening Type: Pull; Pitch: 2.54mm; Number of Rows: 1; Series: TSW; Insulation Color: Black; Package Quantity: 1; Connector Type: Header; Length: 5.08mm; Contact Finish - Mating: GOLD; Mount: Through Hole; Housing Color: Black; Depth: 2.54mm; Packaging: Bulk
footprint FP-TSW-102-14-G-S-MFG
pins: 1, 2

## CMP-02766-001743-1
designator J?, comment 3P Hdr
CONN HEADER VERT 3POS 2.54MM; Max Voltage Rating (AC): 550V; Number of Positions: 3; Max Current Rating: 7.6A; Gender: Male; Termination: Solder; RoHS Compliant: Yes; Mount: Through Hole; Lead Free: Lead Free; Connector Type: Header; REACH SVHC: No SVHC; Insulation Color: Black; Width: 2.54mm; Length: 7.62mm; Flammability Rating: UL94 V-0; Housing Material: Polyester; Contact Material: Bronze; Max Operating Temperature: 125°C; Fastening Type: Pull; Series: TSW; Number of Contacts: 3; Packaging: Bulk; Min Operating Temperature: -55°C; Package Quantity: 1; Height: 10.67mm; Pitch: 2.54mm; Contact Finish - Mating: GOLD; Contact Type: Male Pin; Radiation Hardening: No; Color: Black; Housing Color: Black; Contact Plating: Gold; Orientation: Straight; Number of Rows: 1; Depth: 2.54mm; Insulation Material: PBT; Contact Mating Length: 0.32inch; Contact Shape: Square
footprint FP-TSW-103-14-G-S-MFG
pins: 1, 2, 3

## CMP-03422-000286-1
designator C?, comment 0.1uF, 25V
CAP CER 0.1UF 25V X7R 0402; Manufacturer: YAGEO; Manufacturer Part Number: CC0402KRX7R8BB104; Tolerance: 0.1; Capacitance: 100 nF; Material: Ceramic; Value: 100 nF; Temperature Coefficient: 30ppm/°C; Automotive Grade: NA; Ipc Land Pattern Name: CAPC10050X50; Lead Free: Yes; Package: CC0402; RoHS: TRUE; Device Class L1: Passive Components; Height: 0.55mm; Temperature Range Low: -55°C; Device Class L2: Capacitors; Octopart: https://octopart.com/cc0402krx7r8bb104-yageo-22850997; ComponentLink2URL: http://www.yageo.com/documents/recent/UPY-GP_NP0_16V-to-50V_16.pdf; ComponentLink2Description: Datasheet; Temperature Range High: +125°C; Temperature Characteristic: X7R; Automotive: No; Device Class L3: Ceramic Capacitors; Temperature: -55°C to +125°C; Mouser Description: Multilayer Ceramic Capacitors MLCC - SMD/SMT 100nF 25V X7R 10%; Category: Cap; Digikey Description: CAP CER 0.1UF 25V X7R 0402; Voltage Rating: 25 V; Footprint Url: http://www.yageo.com/exep/pages/download/literatures/UPY-C_GEN_24.pdf
footprint FP-CC0402-MFG
footprint FP-CC0402-IPC_C
footprint FP-CC0402-IPC_B
footprint FP-CC0402-IPC_A
pins: 1, 2

## CMP-03913-103108763-2
designator P?, comment 66014002121503
Connector, Tht Mount, Straight, 0.7 Cbl Dia., 50 Ohms, Wr-mmcx; Insertion Loss (dB): 0.25dB; Insulation Resistance: 1GΩ; Connector Type: MMCX; Impedance: 50Ω; Min Operating Temperature: -55°C; Max Operating Temperature: 155°C; Insulation Material: PTFE
footprint 66014002121503 (Connector, THT mount, Straight, 0.7 CBL Dia., 50 Ohms, WR-MMCX)
pins: 1 Signal "Signal Pin", 2 GND, 3 GND, 4 GND, 5 GND

## CMP-04015-036251-1
designator R?, comment 10k
10kΩ ±0.1% 0.125W, 1/8W Chip Resistor 1206 (3216 Metric) Moisture Resistant Thin Film; Voltage Rating: 150V; Power Rating: 125mW; Temperature Coefficient: 10ppm/°C; Resistance: 10kR; Case Code (Imperial): 1206; Weight: 0.000571oz; Composition: Thin Film; Max Operating Temperature: 125°C; Width: 1.6mm; Termination: SMD/SMT; Case/Package: 1206; Voltage Rating (DC): 150V; Tolerance: 0.1%; Min Operating Temperature: -55°C; Packaging: Tape and Reel; Case Code (Metric): 3216; Length: 3.2mm; Height: 0.6mm
footprint FP-RN732B-MFG
footprint FP-RN732B-IPC_C
footprint FP-RN732B-IPC_A
footprint FP-RN732B-IPC_B
pins: 1, 2

## CMP-04899-000027-1
designator U?, comment SN74LVC8T245PWR
IC TRNSLTR BIDIRECTIONAL 24TSSOP; Manufacturer: Texas Instruments; V B Min: 1.65V; V B Max: 5.5V; Number Of Outputs: 8; Standoff Height: 0.05mm; Nominal Supply Current: 25uA; Number Of Circuits: 1; Propagation Delay: 4.3ns; Logic Function Desc: Non-Inverting; Ambient Temperature Range High: +85°C; Temperature Range Low: -40°C; Category: IC; Min Supply Voltage: 1.65V; Device Class L2: Logic ICs; Digikey Description: IC TRNSLTR BIDIRECTIONAL 24TSSOP; ComponentLink2Description: Datasheet; V A Min: 1.65V; Height: 1.2mm; Device Class L1: Integrated Circuits (ICs); Manufacturer Part Number: SN74LVC8T245PWR; Ipc Land Pattern Name: SOP65P640X120-24; Lead Free: Yes; Device Class L3: Voltage Level Shifters; Octopart: https://octopart.com/sn74lvc8t245pwr-texas+instruments-517164; RoHS: TRUE; Ambient Temperature Range Low: -40°C; Number Of Inputs: 8; Automotive: No; V A Max: 5.5V; Mouser Description: Translation - Voltage Levels 8-Bit Dual-Supply Bus Xcvr; Temperature Range High: +85°C; ComponentLink2URL: http://www.ti.com/lit/ds/symlink/sn74lvc8t245.pdf; Temperature: -40°C to +85°C; Package: PW0024A; Max Supply Voltage: 5.5V
footprint FP-PW0024A-MFG
footprint FP-PW0024A-IPC_C
footprint FP-PW0024A-IPC_B
footprint FP-PW0024A-IPC_A
pins: 1 VCCA (power), 2 DIR (in), 3 A1 (io), 4 A2 (io), 5 A3 (io), 6 A4 (io), 7 A5 (io), 8 A6 (io), 9 A7 (io), 10 A8 (io), 11 GND (power), 12 GND (power), 13 GND (power), 14 B8 (io), 15 B7 (io), 16 B6 (io), 17 B5 (io), 18 B4 (io), 19 B3 (io), 20 B2 (io), 21 B1 (io), 22 ~{OE} (in), 23 VCCB (power), 24 VCCB (power)

## CMP-04918-000139-2
designator U?, comment LM27762DSSR
IC REG CHARGE PUMP ADJ DL 12WSON; Min Output Voltage: 1.5V; Max Input Voltage: 5.5V; Synchronous Rectifier: No; Output Type: Adjustable; Output Current: 250mA; Min Input Voltage: 2.7V; Quiescent Current: 390uA; Switching Frequency: 2.3MHz; Max Output Voltage: 5V; Topology: Charge Pump; Lead Free: Lead Free; Min Operating Temperature: -40°C; Max Operating Temperature: 85°C; RoHS Compliant: Yes; Packaging: Tape and Reel; Mount: Surface Mount
footprint FP-DSS0012B-MFG
footprint FP-DSS0012B-IPC_C
footprint FP-DSS0012B-IPC_B
footprint FP-DSS0012B-IPC_A
pins: 1 PGOOD (oc), 2 FB+ (in), 3 VIN (power), 4 GND (power), 5 CP, 6 OUT-, 7 FB- (in), 8 EN- (in), 9 C1-, 10 C1+, 11 OUT+, 12 EN+ (in), 13 Thermal Pad

## CMP-08246-005578-1
designator C?, comment 1uF, 100V
Multilayer Ceramic Capacitors 1μF ±20% 100V X7S SMD 0805; Package Quantity: 1; Min Operating Temperature: -55°C; Resistor Type: Ceramic; Dielectric: X7S; Series: C; Voltage Rating (DC): 100V; Weight: 0.000194oz; Case/Package: 0805; RoHS Compliant: Yes; Depth: 1.25mm; Lead Free: Lead Free; Number of Pins: 2; Packaging: Tape and Reel; REACH SVHC: No SVHC; Max Operating Temperature: 125°C; Width: 0.049inch; Thickness: 0.053inch; Case Code (Imperial): 0805; Termination: SMD/SMT; Capacitance: 1uF; Mount: Surface Mount; Tolerance: 20%; Case Code (Metric): 2012; Length: 2mm; Voltage Rating: 100V
footprint FP-C2012-125-0_2-IPC_C
footprint FP-C2012-125-0_2-IPC_A
footprint FP-C2012-125-0_2-MFG
footprint FP-C2012-125-0_2-IPC_B
pins: 1, 2

## CMP-08246-005626-1
designator C?, comment 22 nF, 25V
Multilayer Ceramic Capacitors 22nF ±10% 25V X7R SMD 0402; Tolerance: 10%; Series: C; Depth: 0.5mm; Package Quantity: 1; Construction: Flat; Capacitance: 22nF; Lead Free: Lead Free; Case Code (Imperial): 0402; Weight: 2.3E-05oz; RoHS Compliant: Yes; Resistor Type: Ceramic; Max Operating Temperature: 125°C; Termination: SMD/SMT; Dielectric: X7R; Thickness: 0.022inch; Voltage Rating: 25V; Width: 0.02inch; REACH SVHC: No SVHC; Voltage Rating (DC): 25V; Case Code (Metric): 1005; Mount: Surface Mount; Height: 0.5mm; Packaging: Tape and Reel; Radiation Hardening: No; Number of Pins: 2; Case/Package: 0402; Min Operating Temperature: -55°C; Length: 1mm; Dielectric Material: Ceramic
footprint FP-C1005-050-0_05-IPC_C
footprint FP-C1005-050-0_05-IPC_B
footprint FP-C1005-050-0_05-MFG
footprint FP-C1005-050-0_05-IPC_A
pins: 1, 2

## CMP-08246-005723-1
designator C?, comment 1uF, 25V
Multilayer Ceramic Capacitors 1μF ±10% 25V X7R SMD 0603; Mount: Surface Mount; Capacitance: 1uF; Series: C; Tolerance: 10%; RoHS Compliant: Yes; Packaging: Tape and Reel; Case Code (Imperial): 0603; Height: 0.8mm; Case/Package: 0603; REACH SVHC: No SVHC; Thickness: 0.037inch; Voltage: 25V; Voltage Rating (DC): 25V; Construction: Flat; Case Code (Metric): 1608; Radiation Hardening: No; Package Quantity: 4000; Weight: 7.1E-05oz; Width: 0.031inch; Resistor Type: Ceramic; Termination: SMD/SMT; Depth: 0.8mm; Lead Free: Lead Free; Min Operating Temperature: -55°C; Length: 1.6mm; Dielectric: X7R; Max Operating Temperature: 125°C; Voltage Rating: 25V; Dielectric Material: Ceramic
footprint FP-C1608-080-0_1-IPC_C
footprint FP-C1608-080-0_1-IPC_B
footprint FP-C1608-080-0_1-IPC_A
footprint FP-C1608-080-0_1-MFG
pins: 1, 2

## CMP-12187-000026-1
designator D?, comment BAT54KFILM
DIODE SCHOTTKY 40V 300MA SOD523; Manufacturer: STMicroelectronics; Capacitance: 7pF; Value: 7pF; Max Surge Forward Current: 1.25A; Peak Reverse Current: 1uA; Max Junction Temp: +150°C; Device Class L2: Diodes; Temperature Range Low: -40°C; Category: Diode; Manufacturer Part Number: BAT54KFILM; Digikey Description: DIODE SCHOTTKY 40V 300MA SOD523; Device Class L3: Schottky Diodes; Automotive: No; Height: 0.7mm; Octopart: https://octopart.com/bat54kfilm-stmicroelectronics-39618022; ComponentLink2Description: Datasheet; Temperature Range High: +150°C; Device Class L1: Discrete Semiconductors; Max Repetitive Reverse Voltage: 40V; RoHS: TRUE; Temperature: -40°C to +150°C; ComponentLink2URL: https://www.st.com/content/ccc/resource/technical/document/datasheet/07/50/54/f2/0d/ba/4a/79/CD00001322.pdf/files/CD00001322.pdf/jcr:content/translations/en.CD00001322.pdf; Lead Free: Yes; Forward Current: 300mA; Package: SOD-523; Mouser Description: Schottky Diodes & Rectifiers schottky diode
footprint FP-SOD-523-MFG
pins: 1 C, 2 A

## CMP-12400-000001-2
designator J?, comment 24.243.1
Banana Test Connector, 4mm, Socket, PCB Mount, 24 A, 60 VDC, Silver Plated Contacts, Green; Gender: Male; Voltage Rating: 30V; Current Rating: 20A; REACH SVHC: No SVHC; Contact Material: Brass; RoHS Compliant: Yes; Contact Plating: Silver; Voltage Rating (DC): 30V; Length: 24mm; Termination: Solder
footprint FP-24_243_1-MFG
pins: 1

## CMP-12400-000002-2
designator J?, comment 24.243.2
RECEPTACLE, 20A, 4MM, PCB, SOLDER, BLACK; Gender: Male; Current Rating: 20A; Contact Plating: Silver; Termination: Solder; Length: 24mm; REACH SVHC: No SVHC; Contact Material: Brass
footprint FP-24_243_2-MFG
pins: 1

## CMP-12790-000003-1
designator D?, comment SDM03U40-7
DIODE SCHOTTKY 30V 30MA SOD523; Manufacturer: Diodes Inc.; Automotive Grade: Grade 1; Peak Reverse Current: 0.5uA; Max Junction Temp: +125°C; Max Repetitive Reverse Voltage: 40V; Value: 2pF; Max Surge Forward Current: 200mA; Mouser Description: Schottky Diodes & Rectifiers 40V 150mW; Footprint Url: https://www.diodes.com/assets/Package-Files/SOD523.pdf; Category: Diode; Reverse Voltage: 30V; ComponentLink2Description: Datasheet; Device Class L2: Diodes; Forward Current: 30mA; Temperature: -40°C to +125°C; Automotive: Yes; Manufacturer Part Number: SDM03U40-7; Octopart: https://octopart.com/sdm03u40-7-diodes+inc.-333863; Digikey Description: DIODE SCHOTTKY 30V 30MA SOD523; Height: 0.65mm; Device Class L3: Schottky Diodes; Package: SOD523; Device Class L1: Discrete Semiconductors; ComponentLink2URL: https://www.diodes.com/assets/Datasheets/ds30392.pdf; RoHS: TRUE; Capacitance: 2pF; Temperature Range Low: -40°C; Lead Free: Yes; Temperature Range High: +125°C
footprint FP-SOD523-MFG
pins: 1 C, 2 A

## CMP-14477-000551-2
designator C?, comment 220nF, 100V
None; Tolerance: 10%; Case/Package: 0603; RoHS Compliant: No; Case Code (Imperial): 0603; Max Operating Temperature: 125°C; Min Operating Temperature: -55°C; Mount: Surface Mount; Voltage Rating: 100V; Packaging: Cut Tape; Capacitance: 220nF; Case Code (Metric): 1608; Ratings: AEC-Q200
footprint FP-0603-L_1_6_0_1-W_0_8_0-IPC_C
footprint FP-0603-L_1_6_0_1-W_0_8_0-MFG
footprint FP-0603-L_1_6_0_1-W_0_8_0-IPC_B
footprint FP-0603-L_1_6_0_1-W_0_8_0-IPC_A
pins: 1, 2

## CMP-26527-007420-1
designator R?, comment 20 ohm
20Ω ±5% 0.063W 0402 Thick Film Chip Resistor AEC-Q200 compliant; Power Rating: 63mW; Resistance: 20R; Temperature Coefficient: 100ppm/°C; Case Code (Imperial): 0402; Length: 0.039inch; Lead Free: Lead Free; Packaging: Tape and Reel; Width: 0.02inch; Max Power Dissipation: 63mW; Max Operating Temperature: 155°C; Construction: Rectangular; Min Operating Temperature: -55°C; Number of Terminations: 2; Case Code (Metric): 1005; Military Standard: Not; Series: RMCF; Tolerance: 5%; Size Code: 0402; RoHS Compliant: Yes; Resistor Type: Thick Film; Mount: Surface Mount; Contact Plating: Tin; Features: Automotive AEC-Q200; Case/Package: 0402; Depth: 0.5mm; Height: 0.016inch; Radiation Hardening: No
footprint FP-RMCF0402-IPC_C
footprint FP-RMCF0402-MFG
footprint FP-RMCF0402-IPC_B
footprint FP-RMCF0402-IPC_A
pins: 1, 2

## CMP-26527-007617-1
designator R?, comment 0 ohm
RES 0 OHM JUMPER 1/16W 0402; Power Rating: 63mW; Working Voltage: 50V; Current Rating: 1A; Resistance: 0R; Series: RMCF; RoHS Compliant: Yes; Features: Automotive AEC-Q200; Width: 0.02inch; Depth: 0.5mm; Resistor Type: Thick Film; Number of Terminations: 2; Radiation Hardening: No; Length: 0.039inch; Contact Plating: Tin; Case/Package: 0402; Min Operating Temperature: -55°C; Case Code (Metric): 1005; Construction: Rectangular; Mount: Surface Mount; Max Operating Temperature: 155°C; Max Power Dissipation: 63mW; Height: 0.016inch; Lead Free: Lead Free; Packaging: Tape and Reel; Technology: THICK FILM; Case Code (Imperial): 0402; Military Standard: Not
footprint FP-RMCF0402-MFG
footprint FP-RMCF0402-IPC_C
footprint FP-RMCF0402-IPC_B
footprint FP-RMCF0402-IPC_A
pins: 1, 2

## CMP-56206-000012-1
designator D?, comment MBRX120LF-TP
DIODE SCHOTTKY 20V 1A SOD123; Max Power Dissipation: 556mW; Forward Voltage: 360mV; Peak Non-Repetitive Surge Current: 12A; Element Configuration: Single; Max Reverse Voltage (DC): 20V; Lead Free: Lead Free; Max Operating Temperature: 125°C; Radiation Hardening: No; Mount: Surface Mount; Number of Pins: 2; Average Rectified Current: 1A; Min Operating Temperature: -65°C; Max Repetitive Reverse Voltage (Vrrm): 20V; RoHS Compliant: Yes; Package Quantity: 1; Max Forward Surge Current (Ifsm): 12A; Packaging: Tape and Reel; Max Surge Current: 12A; Forward Current: 1A
footprint FP-SOD-123-IPC_A
footprint FP-SOD-123-IPC_B
footprint FP-SOD-123-IPC_C
footprint FP-SOD-123-MFG
pins: 1 C, 2 A

## CMP-83955-000006-1
designator Q?, comment AO3400A
MOSFET N-CH 30V 5.7A SOT23; Input Capacitance: 630pF; Number of Elements: 1; Rds On Max: 26.5mR; Max Power Dissipation: 1.4W; Gate to Source Voltage (Vgs): 12V; Min Operating Temperature: -55°C; Lead Free: Lead Free; Number of Pins: 3; Drain to Source Voltage (Vdss): 30V; Case/Package: SOT-23; Mount: Surface Mount; Continuous Drain Current (ID): 5.7A; Radiation Hardening: No; Packaging: Tape and Reel; Max Operating Temperature: 150°C; Power Dissipation: 1.4W
footprint FP-SOT23-MFG
footprint FP-SOT23-IPC_C
footprint FP-SOT23-IPC_B
footprint FP-SOT23-IPC_A
pins: 1 G, 2 S, 3 D

## CMP-166566-000002-1
designator Q?, comment EPC2038
GAN TRANS 100V 2.8OHM BUMPED DIE; Manufacturer: EPC; Typ Forward Diode Voltage: 2.9V; Number Of Channels: 1; Threshold Vgs Max: 2.5V; Rthja Max: 100°C/W; Continuous Drain Current: 0.5A; Gate Charge At Vgs: 44pC @ 5V; Gate To Source Voltage: 6V; Max Junction Temp: +150°C; Reverse Recovery Charge: 0nC; Depletion Mode: False; Drain To Source Resistance: 2100mΩ; Input Capacitace At Vds: 7pF @ 50V; Threshold Vgs Min: 0.8V; Standoff Height: 0.148mm; Lead Free: Yes; Temperature: -40°C to +150°C; Ipc Land Pattern Name: BGA4N45P2X2_90X90X81; Digikey Description: GAN TRANS 100V 2.8OHM BUMPED DIE; Package: 0; Octopart: https://octopart.com/epc2038-epc-81758250; Drain To Source Breakdown Voltage: 100V; Device Class L2: Transistors; Manufacturer Part Number: EPC2038; Device Class L1: Discrete Semiconductors; Height: 0.815mm; Drain To Source Voltage: 100V; ComponentLink2Description: Datasheet; Technology: GaN; ComponentLink2URL: https://epc-co.com/epc/documents/datasheets/EPC2038_datasheet.pdf; Pulse Drain Current: 0.5A; Temperature Range Low: -40°C; Device Class L3: MOSFETs; Automotive: No; Temperature Range High: +150°C; Number Of N Channels: 1; RoHS: TRUE; Category: Trans
footprint FP-EPC2038-MFG
footprint FP-EPC2038-IPC_C
footprint FP-EPC2038-IPC_B
footprint FP-EPC2038-IPC_A
pins: 1 G, 2 S, 3 D, 4 S